# EAGLE library part CP112S (library mastrogippo)
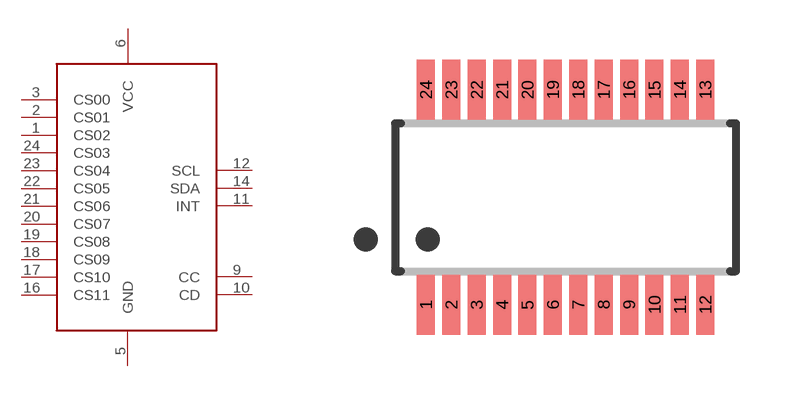
[diagram p30: symbol with the pads of QSOP24; footprint QSOP24]

Designator prefix -

## CP112S  [QSOP24]
1  CS02
2  CS01
3  CS00
5  GND
6  VCC
9  CC
10  CD
11  INT
12  SCL
14  SDA
16  CS11
17  CS10
18  CS09
19  CS08
20  CS07
21  CS06
22  CS05
23  CS04
24  CS03

## Footprint QSOP24 (pad centres in mm)
smd 0.45 x 1.5: 1 -2.223,-2.69; 2 -1.587,-2.69; 3 -0.953,-2.69; 4 -0.318,-2.69; 5 0.318,-2.69; 6 0.953,-2.69; 7 1.587,-2.69; 8 2.223,-2.69; 9 2.857,-2.69; 10 3.493,-2.69; 11 4.128,-2.69; 12 4.763,-2.69; 13 4.763,2.69; 14 4.128,2.69; 15 3.493,2.69; 16 2.857,2.69; 17 2.223,2.69; 18 1.587,2.69; 19 0.953,2.69; 20 0.318,2.69; 21 -0.318,2.69; 22 -0.953,2.69; 23 -1.587,2.69; 24 -2.223,2.69